# Altium footprint library CONN_HDR_1MM_ST_SMDE.PcbLib: 7 footprints
Each footprint in its own frame and in the unit in brackets; x right, y up, seen from the top. Pads: shape width x height; smd on the part's side, far side on the other; paste and mask are expansions set on the pad; w line width, h text height; cw(c..) or ccw(c..) is an arc to the next point about the centre after c.
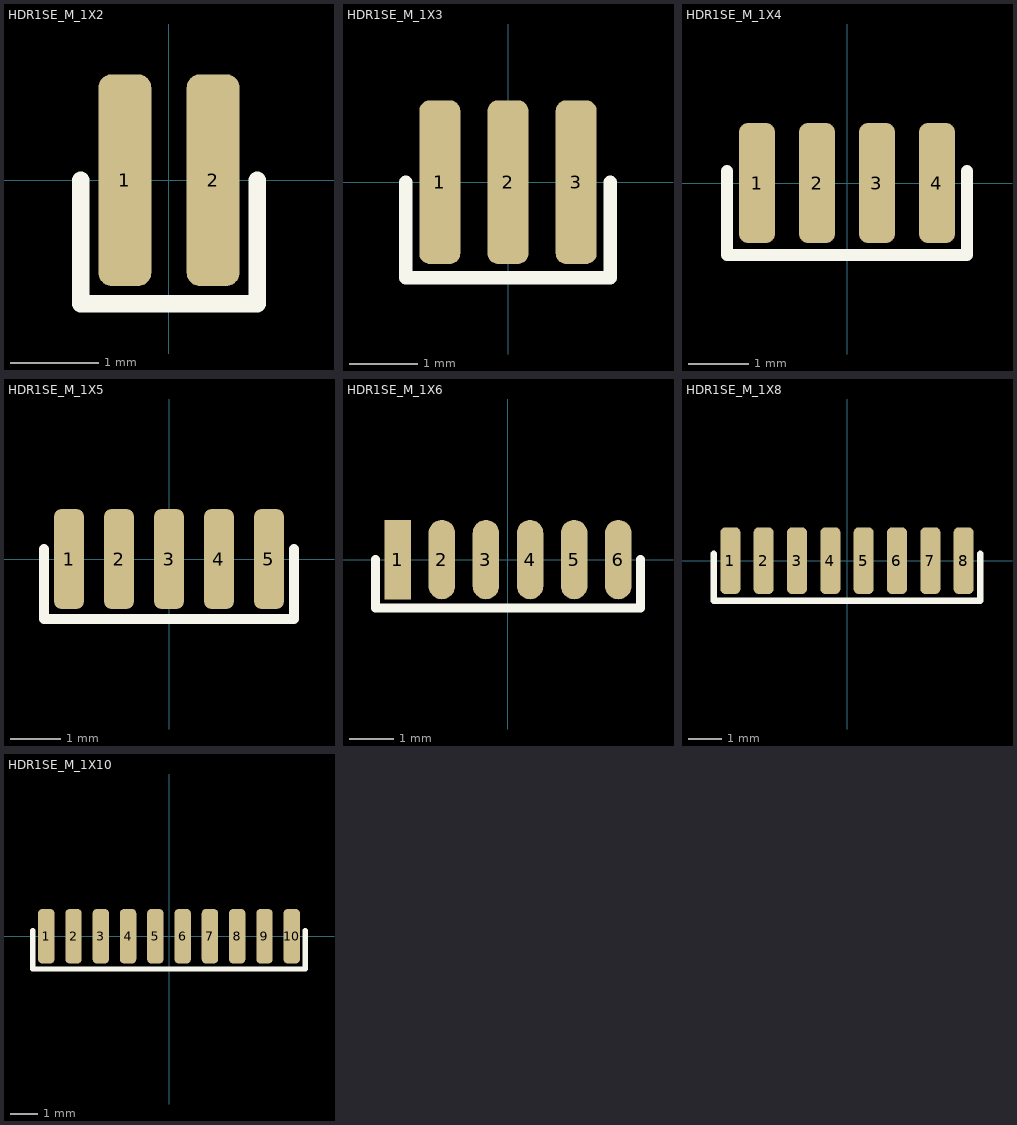
[diagram p0: the footprints below, top view; thin cyan lines are the x and y axes]

## HDR1SE_M_1X2 [mm] "HEADER, 1mm, test, SMD"
pads (2):
  rrect50% 0.6x2.4 smd mask+0.1: 1(-0.5,0) 2(0.5,0)
Top Overlay:
  lines w0.2: -1,0 -1,-1.4 1,-1.4 1,0

## HDR1SE_M_1X3 [mm] "HEADER, 1mm, test, SMD"
pads (3):
  rrect50% 0.6x2.4 smd mask+0.1: 1(-1,0) 2(0,0) 3(1,0)
Top Overlay:
  lines w0.2: -1.5,0 -1.5,-1.4 1.5,-1.4 1.5,0

## HDR1SE_M_1X4 [mm] "HEADER, 1mm, test, SMD"
pads (4):
  rrect50% 0.6x2 smd mask+0.1: 1(-1.5,0) 2(-0.5,0) 3(0.5,0) 4(1.5,0)
Top Overlay:
  lines w0.2: -2,0.2 -2,-1.2 2,-1.2 2,0.2

## HDR1SE_M_1X5 [mm] "HEADER, 1mm, test, SMD"
pads (5):
  rrect50% 0.6x2 smd mask+0.1: 1(-2,0) 2(-1,0) 3(0,0) 4(1,0) 5(2,0)
Top Overlay:
  lines w0.2: -2.5,0.2 -2.5,-1.2 2.5,-1.2 2.5,0.2

## HDR1SE_M_1X6 [mm] "1mm"
pads (6):
  rect 0.6x1.8 smd mask+0.1: 1(-2.5,0)
  oval 0.6x1.8 smd mask+0.1: 2(-1.5,0) 3(-0.5,0) 4(0.5,0) 5(1.5,0) 6(2.5,0)
Top Overlay:
  lines w0.2: -3,0 -3,-1.1 3,-1.1 3,0

## HDR1SE_M_1X8 [mm] "HEADER, 1mm, test, SMD"
pads (8):
  rrect50% 0.6x2 smd mask+0.1: 1(-3.5,0) 2(-2.5,0) 3(-1.5,0) 4(-0.5,0) 5(0.5,0) 6(1.5,0) 7(2.5,0) 8(3.5,0)
Top Overlay:
  lines w0.2: -4,0.2 -4,-1.2 4,-1.2 4,0.2

## HDR1SE_M_1X10 [mm] "HEADER, 1mm, test, SMD"
pads (10):
  rrect50% 0.6x2 smd mask+0.1: 1(-4.5,0) 2(-3.5,0) 3(-2.5,0) 4(-1.5,0) 5(-0.5,0) 6(0.5,0) 7(1.5,0) 8(2.5,0) 9(3.5,0) 10(4.5,0)
Top Overlay:
  lines w0.2: -5,0.2 -5,-1.2 5,-1.2 5,0.2